# Altium schematic symbol library Mixed_Signal#csv.SchLib: 3 symbols
Pins are listed as number, name and electrical type; pins without a type are passive.

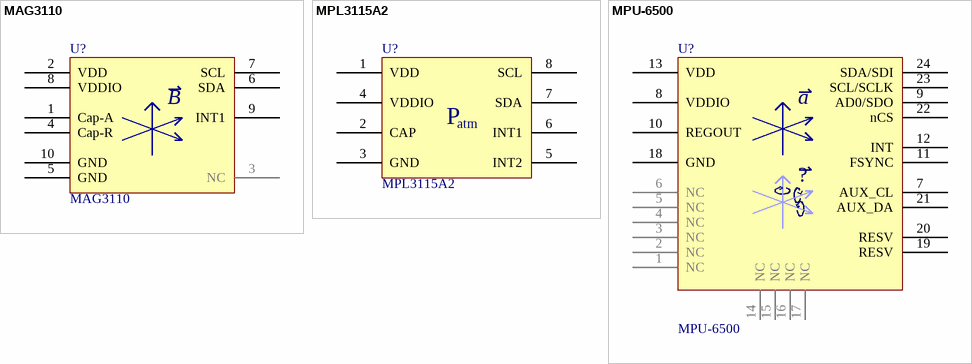
[diagram p0: symbols MAG3110 to MPU-6500]

## MAG3110
designator U?
XYZ Digital Magnetometer I2C; Manufacturer: Freescale Semiconductor; Manufacturer Part Number: MAG3110FCR1; Name: MAG3110; Value: MAG3110
footprint SON40P200X200X80-10WL
pins: 1 Cap-A, 2 VDD, 3 NC, 4 Cap-R, 5 GND, 6 SDA, 7 SCL, 8 VDDIO, 9 INT1, 10 GND
text: B

## MPL3115A2
designator U?
IC ALTIMETER I2C VERSION 8LGA; Manufacturer: Freescale Semiconductor; Name: MPL3115A2; Value: MPL3115A2; Manufacturer Part Number: MPL3115A2; Supplier 1: Digi-Key; Supplier Part Number 1: MPL3115A2-ND
footprint x-FREE_2053-01(LGA8)
pins: 1 VDD, 2 CAP, 3 GND, 4 VDDIO, 5 INT2, 6 INT1, 7 SDA, 8 SCL
text: P; atm

## MPU-6500
designator U?
GYRO/ACCELEROMETER 6AXIS 24QFN; Manufacturer: Invensense; Name: MPU-6500; Value: MPU-6500; Manufacturer Part Number: MPU-6500; Supplier 1: Digi-Key; Supplier Part Number 1: 1428-1011-1-ND
footprint QFN40P300X300X95-24N
pins: 1 NC, 2 NC, 3 NC, 4 NC, 5 NC, 6 NC, 7 AUX_CL, 8 VDDIO, 9 AD0/SDO, 10 REGOUT, 11 FSYNC, 12 INT, 13 VDD, 14 NC, 15 NC, 16 NC, 17 NC, 18 GND, 19 RESV, 20 RESV, 21 AUX_DA, 22 nCS, 23 SCL/SCLK, 24 SDA/SDI
text: a; ?